# Altium schematic symbol library Conn_JST_Sales_America_Inc._SM04B-GHS-TB_LF_SN_eec.SchLib: 1 symbol
Pins are listed as number, name and electrical type; pins without a type are passive.

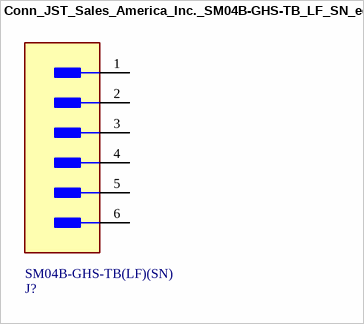
[diagram p0: symbol Conn_JST_Sales_America_Inc._SM04B-GHS-TB_LF_SN_eec]

## Conn_JST_Sales_America_Inc._SM04B-GHS-TB_LF_SN_eec
designator J?  Part Number: SM04B-GHS-TB(LF)(SN)
CONN HEADER GH SIDE 4POS 1.25MM; Manufacturer: JST Sales America Inc.; helpURL: https://upverter.com/upn/revision/607b27fac0ab19ad/; ComponentLink2Description: Datasheet; Temperature: -25°C to +85°C; Package: HDR4; Supplier 2: Mouser; Price: 0.319785820041; Supplier 1: Digi-Key; ComponentLink1URL: https://upverter.com/upn/revision/607b27fac0ab19ad/; Supplier Part Number 1: 455-1566-1-ND; ComponentLink1Description: Upverter; ComponentLink2URL: http://www.jst-mfg.com/product/pdf/eng/eGH.pdf; RoHS: TRUE; Temperature Range High: +85°C; Digikey Description: CONN HEADER GH SIDE 4POS 1.25MM; Digikey Part Number: 455-1566-1-ND; Temperature Range Low: -25°C; Lead Free: yes
footprint JST_Sales_America_Inc._SM04B-GHS-TB_LF_SN_0
pins: 1, 2, 3, 4, 5 MNT 1, 6 MNT 2